# Altium schematic symbol library 12AX7.SchLib: 1 symbol
Pins are listed as number, name and electrical type; pins without a type are passive.

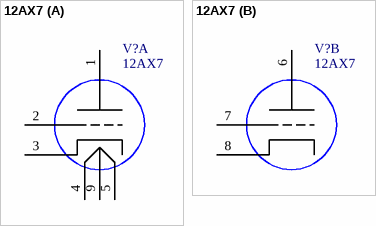
[diagram p0: symbol 12AX7]

## 12AX7
designator V?
/ TUNGSOL 12AX7 NEW PRD PREAMP TB /; MF: RCA; SnapEDA_Link: https://www.snapeda.com/parts/12AX7/RCA/view-part/?ref=snap; Package: None; MP: 12AX7; Check_prices: https://www.snapeda.com/parts/12AX7/RCA/view-part/?ref=eda; Value: *
footprint *NOVAL_PCB
part A pins: 1, 2, 3, 4, 5, 9
part B pins: 6, 7, 8